# EAGLE library part AY-3-8912 (library microchip)
80's style sound chip
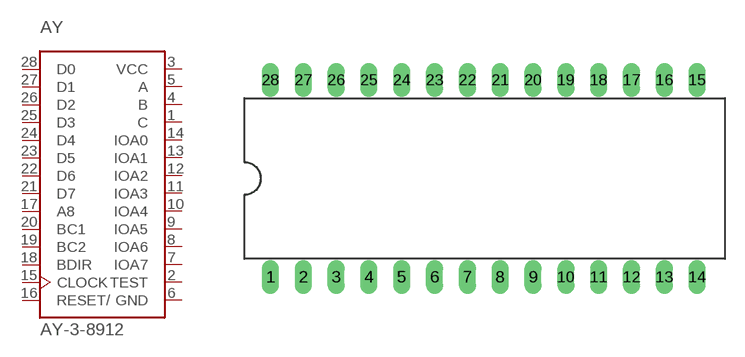
[diagram p57: symbol with the pads of DIL28-6; footprint DIL28-6]

Designator prefix AY

## AY-3-8912  [DIL28-6]
1  C  out
2  TEST  nc
3  VCC  pwr
4  B  out
5  A  out
6  GND  pwr
7  IOA7
8  IOA6
9  IOA5
10  IOA4
11  IOA3
12  IOA2
13  IOA1
14  IOA0
15  CLOCK  in
16  RESET/  in
17  A8  in
18  BDIR  in
19  BC2  in
20  BC1  in
21  D7
22  D6
23  D5
24  D4
25  D3
26  D2
27  D1
28  D0

## Footprint DIL28-6 (pad centres in mm)
Dual In Line package type P
drill 0.813 long: 1 -16.51,-7.62; 2 -13.97,-7.62; 3 -11.43,-7.62; 4 -8.89,-7.62; 5 -6.35,-7.62; 6 -3.81,-7.62; 7 -1.27,-7.62; 8 1.27,-7.62; 9 3.81,-7.62; 10 6.35,-7.62; 11 8.89,-7.62; 12 11.43,-7.62; 13 13.97,-7.62; 14 16.51,-7.62; 15 16.51,7.62; 16 13.97,7.62; 17 11.43,7.62; 18 8.89,7.62; 19 6.35,7.62; 20 3.81,7.62; 21 1.27,7.62; 22 -1.27,7.62; 23 -3.81,7.62; 24 -6.35,7.62; 25 -8.89,7.62; 26 -11.43,7.62; 27 -13.97,7.62; 28 -16.51,7.62